# Altium footprint library Relay-2.PcbLib: 1 footprints
Each footprint in its own frame and in the unit in brackets; x right, y up, seen from the top. Pads: shape width x height; smd on the part's side, far side on the other; paste and mask are expansions set on the pad; w line width, h text height; cw(c..) or ccw(c..) is an arc to the next point about the centre after c.
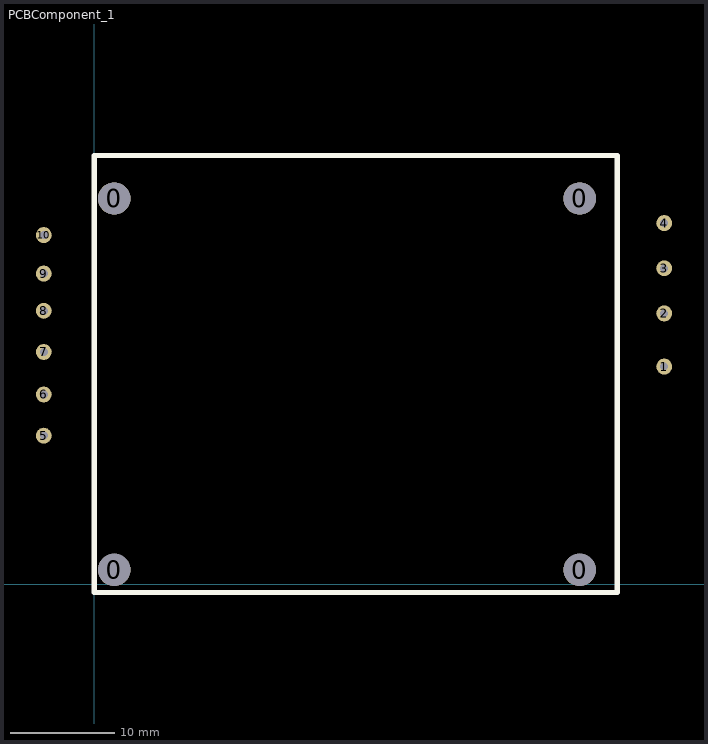
[diagram p0: the footprint, top view; thin cyan lines are the x and y axes]

## PCBComponent_1 [mil]
pads (14):
  round 122.05 hole 122.05: 0(75,55) 0(75,1452.64) 0(1826.97,55) 0(1826.97,1452.64)
  round 60 hole 30: 1(2145,820) 2(2145,1020) 3(2145,1190) 4(2145,1360) 5(-190,560) 6(-190,715) 7(-190,875) 8(-190,1030) 9(-190,1170) 10(-190,1315)
Top Overlay:
  lines w20: 0,-30 0,1614.17 1968.5,1614.17 1968.5,-30 0,-30